# Altium integrated library Trafo.IntLib: 2 symbols
Pins are listed as number, name and electrical type; pins without a type are passive.

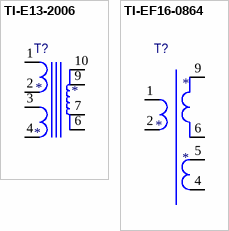
[diagram p0: symbols TI-E13-2006 to TI-EF16-0864]

## TI-E13-2006
designator T?
ID: TI-E13-2006; PDF: *; PRICE: *; BUY_LINK: *
footprint TI-E13
pins: 1, 2, 3, 4, 6, 7, 9, 10

## TI-EF16-0864
designator T?
ID: TI-EF16-0864; PDF: *; PRICE: *; BUY_LINK: *
footprint TI-EF16
pins: 1, 2, 4, 5, 6, 9